# Altium schematic symbol library INA301A1IDGKR.SchLib: 1 symbol
Pins are listed as number, name and electrical type; pins without a type are passive.

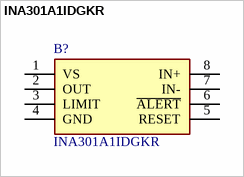
[diagram p0: symbol INA301A1IDGKR]

## INA301A1IDGKR
designator B?
36V, Low-/High-side, Voltage Output CSA with Comparator; Manufacturer_Name: Texas Instruments; Geometry.Height: 1.1mm; Mouser Part Number: 595-INA301A1IDGKR; Mouser Price/Stock: https://www.mouser.co.uk/ProductDetail/Texas-Instruments/INA301A1IDGKR?qs=yajEpaT76uR6go0HjUkNgA%3D%3D; Manufacturer_Part_Number: INA301A1IDGKR; Datasheet Link: http://www.ti.com/lit/gpn/INA301
footprint SOP65P490X110-8N
pins: 1 VS, 2 OUT, 3 LIMIT, 4 GND, 5 RESET, 6 ~{ALERT}, 7 IN-, 8 IN+